# EAGLE library part SFP_CONN_MALE (library sfp)
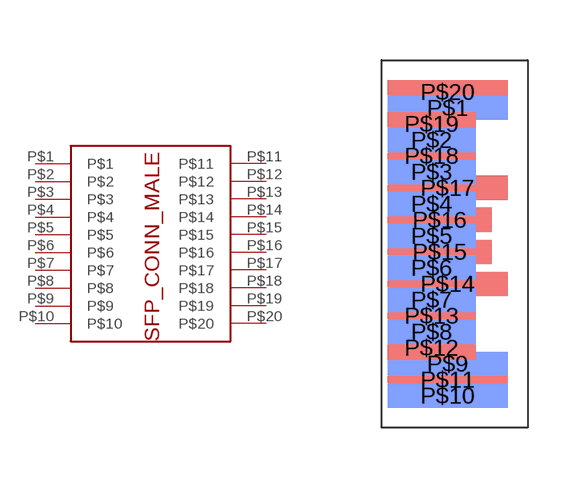
[diagram p1: symbol with the pads of SFP_CONN_MALE; footprint SFP_CONN_MALE]

Designator prefix -

## SFP_CONN_MALE  [SFP_CONN_MALE]
P$1  P$1
P$2  P$2
P$3  P$3
P$4  P$4
P$5  P$5
P$6  P$6
P$7  P$7
P$8  P$8
P$9  P$9
P$10  P$10
P$11  P$11
P$12  P$12
P$13  P$13
P$14  P$14
P$15  P$15
P$16  P$16
P$17  P$17
P$18  P$18
P$19  P$19
P$20  P$20

## Footprint SFP_CONN_MALE (pad centres in mm)
smd 3 x 0.6 bottom: P$1 0.2,3.35; P$9 0.2,-3.05; P$10 0.2,-3.85
smd 2.2 x 0.6 bottom: P$2 -0.2,2.55; P$3 -0.2,1.75; P$4 -0.2,0.95; P$5 -0.2,0.15; P$6 -0.2,-0.65; P$7 -0.2,-1.45; P$8 -0.2,-2.25
smd 3 x 0.6: P$11 0.2,-3.45; P$14 0.2,-1.05; P$17 0.2,1.35; P$20 0.2,3.75
smd 2.2 x 0.6: P$12 -0.2,-2.65; P$13 -0.2,-1.85; P$18 -0.2,2.15; P$19 -0.2,2.95
smd 2.6 x 0.6: P$15 0,-0.25; P$16 0,0.55